# Altium schematic symbol library IFAT6.SchLib: 83 symbols
Pins are listed as number, name and electrical type; pins without a type are passive.

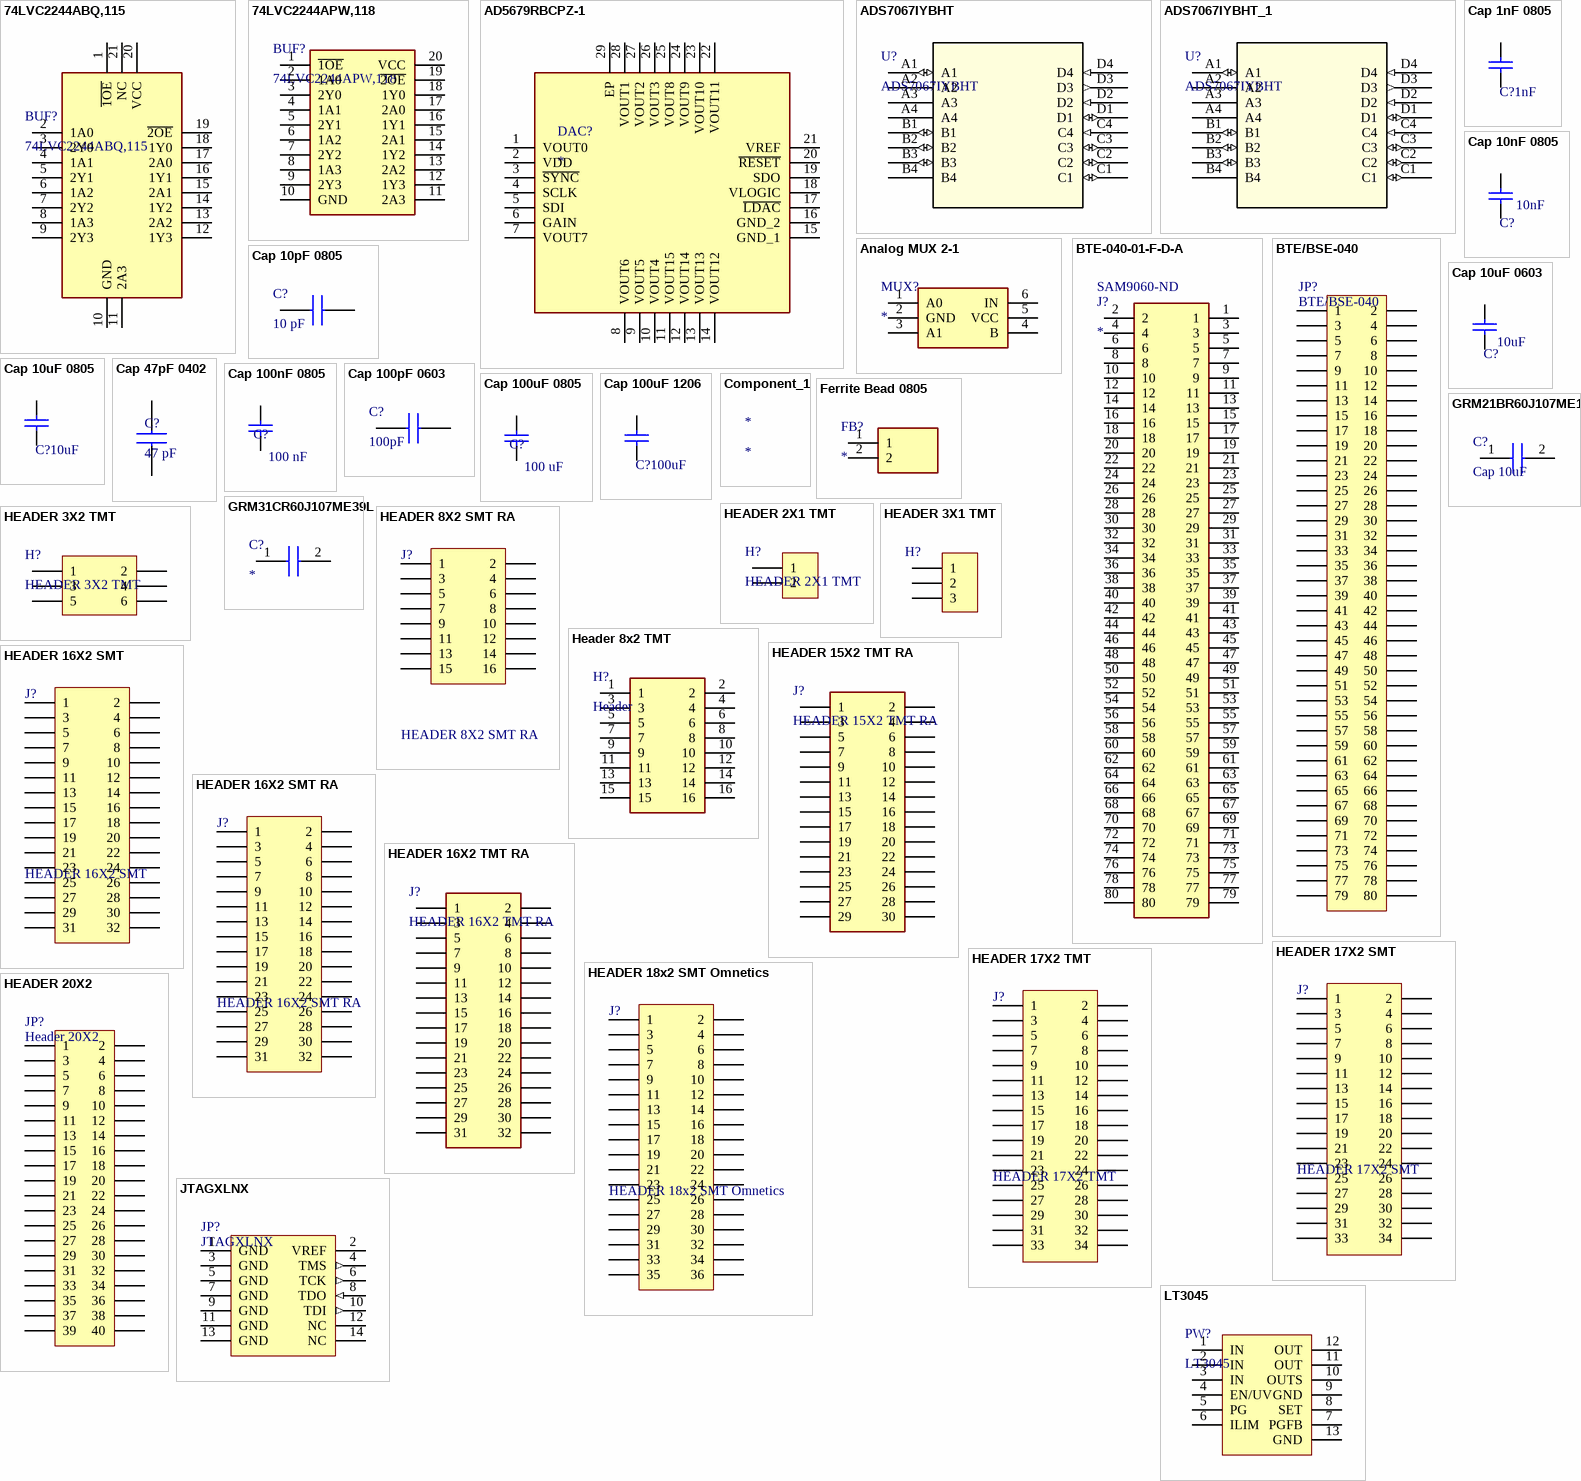
[diagram p0: symbols 74LVC2244ABQ,115 to LT3045]

## 74LVC2244ABQ,115
designator BUF?
Bus Driver, LVC/LCX/Z Series, 2-Func, 4-Bit, True Output, CMOS, PQCC20; Supplier 1: Digi-Key; Supplier Part Number 1: 1727-6995-1-ND
footprint NXP Semiconductors 74LVC2244ABQ,115 (IC BUFF NON-INVERT 3.6V 20DHVQFN)
pins: 1 ~{1OE}, 2 1A0, 3 2Y0, 4 1A1, 5 2Y1, 6 1A2, 7 2Y2, 8 1A3, 9 2Y3, 10 GND, 11 2A3, 12 1Y3, 13 2A2, 14 1Y2, 15 2A1, 16 1Y1, 17 2A0, 18 1Y0, 19 ~{2OE}, 20 VCC, 21 NC

## 74LVC2244APW,118
designator BUF?
Bus Driver, LVC/LCX/Z Series, 2-Func, 4-Bit, True Output, CMOS, PDSO20; Supplier 1: Digi-Key; Supplier Part Number 1: 1727-4030-1-ND; ComponentLink1URL: https://datasheet.ciiva.com:443/pdfs/VipMasterIC/IC/PHGL/PHGLS23636/PHGLS23636-1.pdf?src-supplier=IHS+Markit; ComponentLink1Description: https://datasheet.ciiva.com:443/pdfs/VipMasterIC/IC/PHGL/PHGLS23636/PHGLS23636-1.pdf?src-supplier=IHS+Markit
footprint Nexperia 74LVC2244APW,118 (IC BUFF NON-INVERT 3.6V 20DHVQFN)
pins: 1 ~{1OE}, 2 1A0, 3 2Y0, 4 1A1, 5 2Y1, 6 1A2, 7 2Y2, 8 1A3, 9 2Y3, 10 GND, 11 2A3, 12 1Y3, 13 2A2, 14 1Y2, 15 2A1, 16 1Y1, 17 2A0, 18 1Y0, 19 ~{2OE}, 20 VCC

## AD5679RBCPZ-1
designator DAC?
Integrated Circuit; Manufacturer_Name: Analog Devices; Manufacturer_Part_Number: AD5679RBCPZ-1; Datasheet Link: https://componentsearchengine.com/Datasheets/1/AD5679RBCPZ-1.pdf; Height: 1mm; Mouser Part Number: 584-AD5679RBCPZ-1; Mouser Price/Stock: https://www.mouser.co.uk/ProductDetail/Analog-Devices/AD5679RBCPZ-1?qs=u16ybLDytRZN3sdxACBybw%3D%3D; Supplier 1: Mouser; Supplier Part Number 1: 584-AD5679RBCPZ-1
footprint QFN40P400X400X100-29N-D
pins: 1 VOUT0, 2 VDD, 3 ~{SYNC}, 4 SCLK, 5 SDI, 6 GAIN, 7 VOUT7, 8 VOUT6, 9 VOUT5, 10 VOUT4, 11 VOUT15, 12 VOUT14, 13 VOUT13, 14 VOUT12, 15 GND_1, 16 GND_2, 17 ~{LDAC}, 18 VLOGIC, 19 SDO, 20 ~{RESET}, 21 VREF, 22 VOUT11, 23 VOUT10, 24 VOUT9, 25 VOUT8, 26 VOUT3, 27 VOUT2, 28 VOUT1, 29 EP

## ADS7067IYBHT
designator U?
No Description Available; Mfr_Name: Texas Instruments; Copyright: Copyright (C) 2022 Ultra Librarian. All rights reserved.; Manufacturer_Part_Number: ADS7067IYBHT; RefDes: RefDes; Type: DEV
footprint BGA16_YBH_TEX
pins: A1 (io), A2 (power), A3 (power), A4 (power), B1 (io), B2 (io), B3 (io), B4, C1 (io), C2 (io), C3 (io), C4 (in), D1 (io), D2 (in), D3 (out), D4 (in)

## ADS7067IYBHT_1
designator U?, comment ADS7067IYBHT
No Description Available; Mfr_Name: Texas Instruments; Copyright: Copyright (C) 2022 Ultra Librarian. All rights reserved.; Manufacturer_Part_Number: ADS7067IYBHT; RefDes: RefDes; Type: DEV
footprint BGA16_YBH_TEX
pins: A1 (io), A2 (power), A3 (power), A4 (power), B1 (io), B2 (io), B3 (io), B4, C1 (io), C2 (io), C3 (io), C4 (in), D1 (io), D2 (in), D3 (out), D4 (in)

## Analog MUX 2-1
designator MUX?
Integrated Circuit; Manufacturer_Name: Analog Devices; Manufacturer_Part_Number: ADG3248BKSZ-REEL7; Datasheet Link: http://www.analog.com/media/en/technical-documentation/data-sheets/ADG3248.pdf; Height: 1.1mm; Mouser Part Number: 584-ADG3248BKSZ-R7; Mouser Price/Stock: https://www.mouser.co.uk/ProductDetail/Analog-Devices/ADG3248BKSZ-REEL7?qs=BpaRKvA4VqEqID9iSIANOw%3D%3D; Arrow Part Number: ADG3248BKSZ-REEL7; Arrow Price/Stock: https://www.arrow.com/en/products/adg3248bksz-reel7/analog-devices?region=nac; Supplier 1: Digi-Key; Supplier Part Number 1: ADG3248BKSZ-REEL7CT-ND
footprint SOT65P210X110-6N
pins: 1 A0, 2 GND, 3 A1, 4 B, 5 VCC, 6 IN

## BTE-040-01-F-D-A
designator J?  Supplier Part Number 1: SAM9060-ND
Connector; Manufacturer_Name: SAMTEC; Manufacturer_Part_Number: BTE-040-01-F-D-A; Datasheet Link: http://suddendocs.samtec.com/prints/bte-xxx-xx-x-d-xx-mkt.pdf; Height: 4.27mm; Mouser Part Number: 200-BTE04001FDA; Mouser Price/Stock: https://www.mouser.co.uk/ProductDetail/Samtec/BTE-040-01-F-D-A?qs=0lQeLiL1qyZWYcQfbiTcmQ%3D%3D; Arrow Part Number: BTE-040-01-F-D-A; Arrow Price/Stock: https://www.arrow.com/en/products/bte-040-01-f-d-a/samtec; Supplier 1: Digi-Key
footprint BTE-040-YY-X-D-A
pins: 1, 2, 3, 4, 5, 6, 7, 8, 9, 10, 11, 12, 13, 14, 15, 16, 17, 18, 19, 20, 21, 22, 23, 24, 25, 26, 27, 28, 29, 30, 31, 32, 33, 34, 35, 36, 37, 38, 39, 40, 41, 42, 43, 44, 45, 46, 47, 48, 49, 50, 51, 52, 53, 54, 55, 56, 57, 58, 59, 60, 61, 62, 63, 64, 65, 66, 67, 68, 69, 70, 71, 72, 73, 74, 75, 76, 77, 78, 79, 80

## BTE/BSE-040
designator JP?
Board Stacking Connector, 80 Contact(s), 2 Row(s), Male, Straight, 0.031 inch Pitch, Surface Mount Terminal, Receptacle; Date: November 14, 2003; Supplier 1: Digi-Key; Supplier Part Number 1: SAM8745-ND
footprint Samtec BTE-040-01-L-D-A
pins: 1, 2, 3, 4, 5, 6, 7, 8, 9, 10, 11, 12, 13, 14, 15, 16, 17, 18, 19, 20, 21, 22, 23, 24, 25, 26, 27, 28, 29, 30, 31, 32, 33, 34, 35, 36, 37, 38, 39, 40, 41, 42, 43, 44, 45, 46, 47, 48, 49, 50, 51, 52, 53, 54, 55, 56, 57, 58, 59, 60, 61, 62, 63, 64, 65, 66, 67, 68, 69, 70, 71, 72, 73, 74, 75, 76, 77, 78, 79, 80

## Cap 1nF 0805
designator C?  value 1nF  (hidden comment: Cap 1nF 0805)
Ceramic Capacitor, Multilayer, Ceramic, 50V, 10% +Tol, 10% -Tol, X7R, 15% TC, 0.001uF, Surface Mount, 0805; Supplier 1: Digi-Key; Supplier Part Number 1: 1276-2424-1-ND
footprint Samsung CL21B Series (CAP 0805)
pins: 1, 2

## Cap 10nF 0805
designator C?  value 10nF  (hidden comment: Cap 10nF 0805)
CAP CER 10000PF 25V X7R 0805 / ±10% 25V Ceramic Capacitor X7R 0805 (2012 Metric); Supplier 1: Digi-Key; Supplier Part Number 1: 1276-2434-1-ND
footprint Samsung CL21B Series (CAP 0805)
pins: 1, 2

## Cap 10pF 0805
designator C?, comment 10 pF
Capacitor; Manufacturer_Name: Kemet; Manufacturer_Part_Number: C0805C100J5GACTU; Datasheet Link: http://www.mouser.com/ds/2/212/KEM_C1003_C0G_SMD-356956.pdf; Height: 0.88mm; Mouser Part Number: 80-C0805C100J5G; Mouser Price/Stock: https://www.mouser.co.uk/ProductDetail/KEMET/C0805C100J5GACTU?qs=nxj9Bpd7lumc4YIny1qjLA%3D%3D; Arrow Part Number: C0805C100J5GACTU; Arrow Price/Stock: https://www.arrow.com/en/products/c0805c100j5gactu/kemet-corporation?region=nac; Supplier 1: Digi-Key; Supplier Part Number 1: 399-C0805C100J5GAC7800CT-ND
footprint CAPC2012X88N
pins: 1, 2

## Cap 10uF 0603
designator C?  value 10uF  (hidden comment: Cap 10uF 0603)
Ceramic Capacitor, Multilayer, Ceramic, 6.3V, 20% +Tol, 20% -Tol, X5R, 15% TC, 10uF, Surface Mount, 0603; Supplier 1: Digi-Key; Supplier 2: Digi-Key; Supplier Part Number 1: 490-3896-1-ND; Supplier Part Number 2: 1276-1038-1-ND
footprint Murata GRM188R60J106ME47D (CAP CER 10UF 6.3V X5R 0603)
pins: 1, 2

## Cap 10uF 0805
designator C?  value 10uF  (hidden comment: Cap 10uF 0805)
CAP CER 10UF 16V X5R 0805 / ±10% 16V Ceramic Capacitor X5R 0805 (2012 Metric); Supplier 1: Digi-Key; Supplier 2: Digi-Key; Supplier Part Number 1: 399-4925-1-ND; Supplier Part Number 2: 399-11939-1-ND
footprint KEMET C0805C106K4PACTU (CAP CER 10UF 16V X5R 0805)
pins: 1, 2

## Cap 47pF 0402
designator C?, comment 47 pF
Capacitor; Manufacturer_Name: AVX; Manufacturer_Part_Number: 04025A470JAT2A; Datasheet Link: http://www.mouser.com/catalog/supplier/library/pdf/AVXSurfaceMountCeramic.pdf; Height: 0.56mm; Mouser Part Number: 581-04025A470J; Mouser Price/Stock: https://www.mouser.com/Search/Refine.aspx?Keyword=581-04025A470J; Arrow Part Number: 04025A470JAT2A; Arrow Price/Stock: https://www.arrow.com/en/products/04025a470jat2a/avx; Supplier 1: Digi-Key; Supplier Part Number 1: 478-1078-1-ND
footprint CAPC1005X56N
pins: 1, 2

## Cap 100nF 0805
designator C?  value 100 nF  (hidden comment: Cap 100nF 0805)
CAP CER 0.1UF 10V X7R 0805 / ±10% 10V Ceramic Capacitor X7R 0805 (2012 Metric); Supplier 1: Digi-Key; Supplier Part Number 1: 478-5311-1-ND
footprint KEMET C0805C104J8RACTU (CAP CER 0.1UF 10V X7R 0805)
pins: 1, 2

## Cap 100pF 0603
designator C?, comment 100pF
Capacitor; Manufacturer_Name: AVX; Manufacturer_Part_Number: 06035A101FAT2A; Datasheet Link: https://componentsearchengine.com/Datasheets/1/06031A100FAT2A.pdf; Height: 0.9mm; Mouser Part Number: 581-06035A101F; Mouser Price/Stock: https://www.mouser.co.uk/ProductDetail/AVX/06035A101FAT2A?qs=AGOxcRBkg6ajfVvm2Jvp8A%3D%3D; Arrow Part Number: 06035A101FAT2A; Arrow Price/Stock: https://www.arrow.com/en/products/06035a101fat2a/avx?region=nac; Supplier 1: Digi-Key; Supplier Part Number 1: 478-6202-1-ND
footprint CAPC1608X90N
pins: 1, 2

## Cap 100uF 0805
designator C?  value 100 uF  (hidden comment: Cap 100uF 0805)
100 µF ±20% 6.3V Ceramic Capacitor X5R 0805 (2012 Metric); Supplier 1: Newark; Supplier Part Number 1: 58Y4653
footprint KEMET C0805C104J8RACTU (CAP CER 0.1UF 10V X7R 0805)
pins: 1, 2

## Cap 100uF 1206
designator C?  value 100uF  (hidden comment: Cap 100uF 1206)
CAP CER 100UF 6.3V X5R 1206 / ±20% 6.3V Ceramic Capacitor X5R 1206 (3216 Metric); Published: 8-Jun-2000; LatestRevisionDate: 29-May-2009; LatestRevisionNote: IPC-7351 Footprint Added.; PackageReference: C1206; Publisher: Altium Limited; Supplier 1: RSComponents; Supplier Part Number 1: 7661078
footprint Taiyo Yuden JMK316ABJ107ML-T (CAP CER 100UF 6.3V X5R 1206)
pins: 1, 2

## Component_1
designator *

## Ferrite Bead 0805
designator FB?
Ferrite Bead; Manufacturer_Name: Fair-Rite; Manufacturer_Part_Number: 2508056007Y6; Datasheet Link: https://www.arrow.com/en/products/2508056007y6/fair-rite-products?region=nac; Height: 1.1mm; Mouser Part Number: 623-2508056007Y6; Mouser Price/Stock: https://www.mouser.co.uk/ProductDetail/Fair-Rite/2508056007Y6?qs=paL1wOLBYNeaH0qQLC7FvA%3D%3D; Arrow Part Number: 2508056007Y6; Arrow Price/Stock: https://www.arrow.com/en/products/2508056007y6/fair-rite-products?region=nac; Supplier 1: Digi-Key; Supplier Part Number 1: 1934-1471-1-ND
footprint BEADC2012X110N
pins: 1, 2

## GRM21BR60J107ME15
designator C?, comment Cap 10uF
Capacitor; Manufacturer_Name: Murata Electronics; Manufacturer_Part_Number: GRM21BR60J107ME15; Height: 1.45mm
footprint CAPC2012X145N
pins: 1, 2

## GRM31CR60J107ME39L
designator C?
Capacitor; Manufacturer_Name: Murata Electronics; Manufacturer_Part_Number: GRM31CR60J107ME39L; Datasheet Link: https://datasheet.datasheetarchive.com/originals/distributors/Datasheets_SAMA/ec4f1577dddcc7a13ddad897a28002d3.pdf; Height: 1.8mm; Mouser Part Number: 81-GRM31CR60J107ME9L; Mouser Price/Stock: https://www.mouser.co.uk/ProductDetail/Murata-Electronics/GRM31CR60J107ME39L?qs=l8FzV8xstEk1crgPpDV82A%3D%3D; Arrow Part Number: GRM31CR60J107ME39L; Arrow Price/Stock: https://www.arrow.com/en/products/grm31cr60j107me39l/murata-manufacturing
footprint CAPC3216X180N
pins: 1, 2

## HEADER 2X1 TMT
designator H?
CONN HEADER VERT 2POS 2.54MM / Connector Header Through Hole 2 position 0.100" (2.54mm); Supplier 1: Digi-Key; Supplier Part Number 1: SAM1029-02-ND
footprint Samtec TSW-102-07-G-S (CONN HEADER VERT 2POS 2.54MM)
pins: 1, 2

## HEADER 3X1 TMT
designator H?  (value not drawn)
CONN HEADER VERT 3POS 2.54MM / Connector Header Through Hole 3 position 0.100" (2.54mm); Supplier 1: Digi-Key; Supplier Part Number 1: SAM1031-03-ND
footprint Samtec TSW-103-07-L-S (CONN HEADER VERT 3POS 2.54MM)
pins: 1, 2, 3

## HEADER 3X2 TMT
designator H?
CONN HEADER VERT 6POS 2.54MM / Connector Header Through Hole 6 position 0.100" (2.54mm); Supplier 1: Digi-Key; Supplier Part Number 1: SAM1028-03-ND
footprint Samtec TSW-103-07-G-D (CONN HEADER VERT 6POS 2.54MM)
pins: 1, 2, 3, 4, 5, 6

## HEADER 8X2 SMT RA
designator J?
Board Connector, 16 Contact(s), 2 Row(s), Male, Right Angle, 0.1 inch Pitch, Surface Mount Terminal, Locking, Black Insulator; Supplier 1: Digi-Key; Supplier Part Number 1: SAM12252-ND
footprint Samtec TSM-108-01-L-DH (CONN HEADER SMD R/A 16POS 2.54MM)
pins: 1, 2, 3, 4, 5, 6, 7, 8, 9, 10, 11, 12, 13, 14, 15, 16

## Header 8x2 TMT
designator H?, comment Header
Connector; Manufacturer_Name: SAMTEC; Manufacturer_Part_Number: HTSW-108-07-G-D; Datasheet Link: http://suddendocs.samtec.com/catalog_english/htsw_th.pdf; Height: 8.38mm; Mouser Part Number: 200-HTSW10807GD; Mouser Price/Stock: https://www.mouser.co.uk/ProductDetail/Samtec/HTSW-108-07-G-D?qs=0lQeLiL1qyZ%252B%252BSi5pUJ2JA%3D%3D; Arrow Part Number: HTSW-108-07-G-D; Arrow Price/Stock: https://www.arrow.com/en/products/htsw-108-07-g-d/samtec?region=nac; Supplier 1: Digi-Key; Supplier Part Number 1: SAM10540-ND
footprint HDRV16W64P254_2X8_2032X502X838P
pins: 1, 2, 3, 4, 5, 6, 7, 8, 9, 10, 11, 12, 13, 14, 15, 16

## HEADER 15X2 TMT RA
designator J?
Board Connector, 30 Contact(s), 2 Row(s), Male, Right Angle, 0.1 inch Pitch, Solder Terminal, Black Insulator; Supplier 1: Mouser; Supplier 2: Digi-Key; Supplier 3: Newark; ComponentLink1URL: https://datasheet.ciiva.com:443/pdfs/VipMasterIC/IC/SAMI/SAMI-S-A0002522030/SAMI-S-A0002522030-1.pdf?src-supplier=IHS+Markit; ComponentLink1Description: https://datasheet.ciiva.com:443/pdfs/VipMasterIC/IC/SAMI/SAMI-S-A0002522030/SAMI-S-A0002522030-1.pdf?src-supplier=IHS+Markit; ComponentLink2URL: https://datasheet.ciiva.com/9863/htsw-th-9863274.pdf?src-supplier=Avnet; ComponentLink2Description: https://datasheet.ciiva.com/9863/htsw-th-9863274.pdf?src-supplier=Avnet; ComponentLink3URL: https://datasheet.ciiva.com/16698/htsw-th-16698846.pdf?src-supplier=Avnet+Europe; ComponentLink3Description: https://datasheet.ciiva.com/16698/htsw-th-16698846.pdf?src-supplier=Avnet+Europe; Supplier Part Number 1: 200-TSW11508LDRA; Supplier Part Number 2: SAM1041-15-ND; Supplier Part Number 3: 12P2150
footprint Samtec TSW-115-08-L-D-RA (CONN HEADER R/A 30POS 2.54MM)
pins: 1, 2, 3, 4, 5, 6, 7, 8, 9, 10, 11, 12, 13, 14, 15, 16, 17, 18, 19, 20, 21, 22, 23, 24, 25, 26, 27, 28, 29, 30

## HEADER 16X2 SMT
designator J?
CONN HEADER SMD 32POS 2.54MM / Connector Header Surface Mount 32 position 0.100" (2.54mm); Supplier 1: Digi-Key; Supplier Part Number 1: SAM12271-ND
footprint Samtec TSM-116-01-L-DV (CONN HEADER SMD 32POS 2.54MM)
pins: 1, 2, 3, 4, 5, 6, 7, 8, 9, 10, 11, 12, 13, 14, 15, 16, 17, 18, 19, 20, 21, 22, 23, 24, 25, 26, 27, 28, 29, 30, 31, 32

## HEADER 16X2 SMT RA
designator J?
CONN HEADER SMD R/A 32POS 2.54MM / Connector Header Surface Mount, Right Angle 32 position 0.100" (2.54mm); Supplier 1: RSComponents; Supplier 2: Digi-Key; Supplier Part Number 1: 7656681; Supplier Part Number 2: TSM-116-01-L-DH-ND
footprint SAMTEC TSM-116-01-L-DH (CONN HEADER SMD R/A 32POS 2.54MM)
pins: 1, 2, 3, 4, 5, 6, 7, 8, 9, 10, 11, 12, 13, 14, 15, 16, 17, 18, 19, 20, 21, 22, 23, 24, 25, 26, 27, 28, 29, 30, 31, 32

## HEADER 16X2 TMT RA
designator J?
CONN HEADER R/A 32POS 2.54MM / Connector Header Through Hole, Right Angle 32 position 0.100" (2.54mm); Supplier 1: Mouser; Supplier 2: Digi-Key; Supplier Part Number 1: 200-TSW11608LDRA; Supplier Part Number 2: SAM1041-16-ND
footprint Samtec TSW-116-08-L-D-RA (CONN HEADER R/A 32POS 2.54MM)
pins: 1, 2, 3, 4, 5, 6, 7, 8, 9, 10, 11, 12, 13, 14, 15, 16, 17, 18, 19, 20, 21, 22, 23, 24, 25, 26, 27, 28, 29, 30, 31, 32

## HEADER 17X2 SMT
designator J?
CONN HEADER SMD 34POS 2.54MM / Connector Header Surface Mount 34 position 0.100" (2.54mm); Supplier 1: Mouser; Supplier 2: Digi-Key; Supplier Part Number 1: 200-TSM11701LDV; Supplier Part Number 2: SAM10307-ND
footprint Samtec TSM-117-01-L-DV (CONN HEADER SMD 34POS 2.54MM)
pins: 1, 2, 3, 4, 5, 6, 7, 8, 9, 10, 11, 12, 13, 14, 15, 16, 17, 18, 19, 20, 21, 22, 23, 24, 25, 26, 27, 28, 29, 30, 31, 32, 33, 34

## HEADER 17X2 TMT
designator J?
CONN HEADER VERT 34POS 2.54MM / Connector Header Through Hole 34 position 0.100" (2.54mm); Supplier 1: Mouser; Supplier 2: Digi-Key; Supplier Part Number 2: SAM1028-17-ND; Supplier Part Number 1: 200-TSW11707GD
footprint Samtec TSW-117-07-G-D (CONN HEADER VERT 34POS 2.54MM)
pins: 1, 2, 3, 4, 5, 6, 7, 8, 9, 10, 11, 12, 13, 14, 15, 16, 17, 18, 19, 20, 21, 22, 23, 24, 25, 26, 27, 28, 29, 30, 31, 32, 33, 34

## HEADER 18x2 SMT Omnetics
designator J?
Omnetics, A79024-001, NPD-36-AA-GS / 36 Position Dual Row Male Nano-Miniature (.025"/.64mm) Connector
footprint Omnetics_A79024-001 (36 Position Dual Row Male Nano-Miniature (.025"/.64mm) Connector)
pins: 1, 2, 3, 4, 5, 6, 7, 8, 9, 10, 11, 12, 13, 14, 15, 16, 17, 18, 19, 20, 21, 22, 23, 24, 25, 26, 27, 28, 29, 30, 31, 32, 33, 34, 35, 36

## HEADER 20X2
designator JP?, comment Header 20X2
2MM LOW PROFILE STRIPS / Connector Header position; Manufacturer: Generic Components; Revision: July-2002: Re-released for DXP Platform.; Publisher: Altium Limited; Class I: Connector; Supplier 1: Digi-Key; Supplier Part Number 1: TMMH-120-01-F-D-ND
footprint Samtec TMMH-120-01-F-D (2MM LOW PROFILE STRIPS)
pins: 1, 2, 3, 4, 5, 6, 7, 8, 9, 10, 11, 12, 13, 14, 15, 16, 17, 18, 19, 20, 21, 22, 23, 24, 25, 26, 27, 28, 29, 30, 31, 32, 33, 34, 35, 36, 37, 38, 39, 40

## JTAGXLNX
designator JP?
CONN HEADER SMD 14POS 2MM / Connector Header Surface Mount 14 position 0.079" (2.00mm) / for Xilinx JTAG Header, 7-Pin, Dual row; Manufacturer: Generic Components; PartNumber: 000541; Revision: July-2002: Re-released for DXP Platform.; Publisher: Altium Limited; Class I: Connector; Supplier 1: Digi-Key; Supplier Part Number 1: WM18641-ND
footprint Molex 0878321420 (CONN HEADER SMD 14POS 2MM)
pins: 1 GND (power), 2 VREF (power), 3 GND (power), 4 TMS (out), 5 GND (power), 6 TCK (out), 7 GND (power), 8 TDO (in), 9 GND (power), 10 TDI (out), 11 GND (power), 12 NC, 13 GND (power), 14 NC

## LT3045
designator PW?
IC REG LINEAR 0V 500MA 12MSOP / Linear Voltage Regulator IC Output 500mA 12-MSOP-EP; Supplier 1: Digi-Key; Supplier 2: Digi-Key; Supplier Part Number 1: LT3045IMSE#PBF-ND; Supplier Part Number 2: 505-LT3045IMSE#PBF-ND
footprint ADI LT3045IMSE#PBF (IC REG LINEAR 0V 500MA 12MSOP)
pins: 1 IN, 2 IN, 3 IN, 4 EN/UV, 5 PG, 6 ILIM, 7 PGFB, 8 SET, 9 GND, 10 OUTS, 11 OUT, 12 OUT, 13 GND

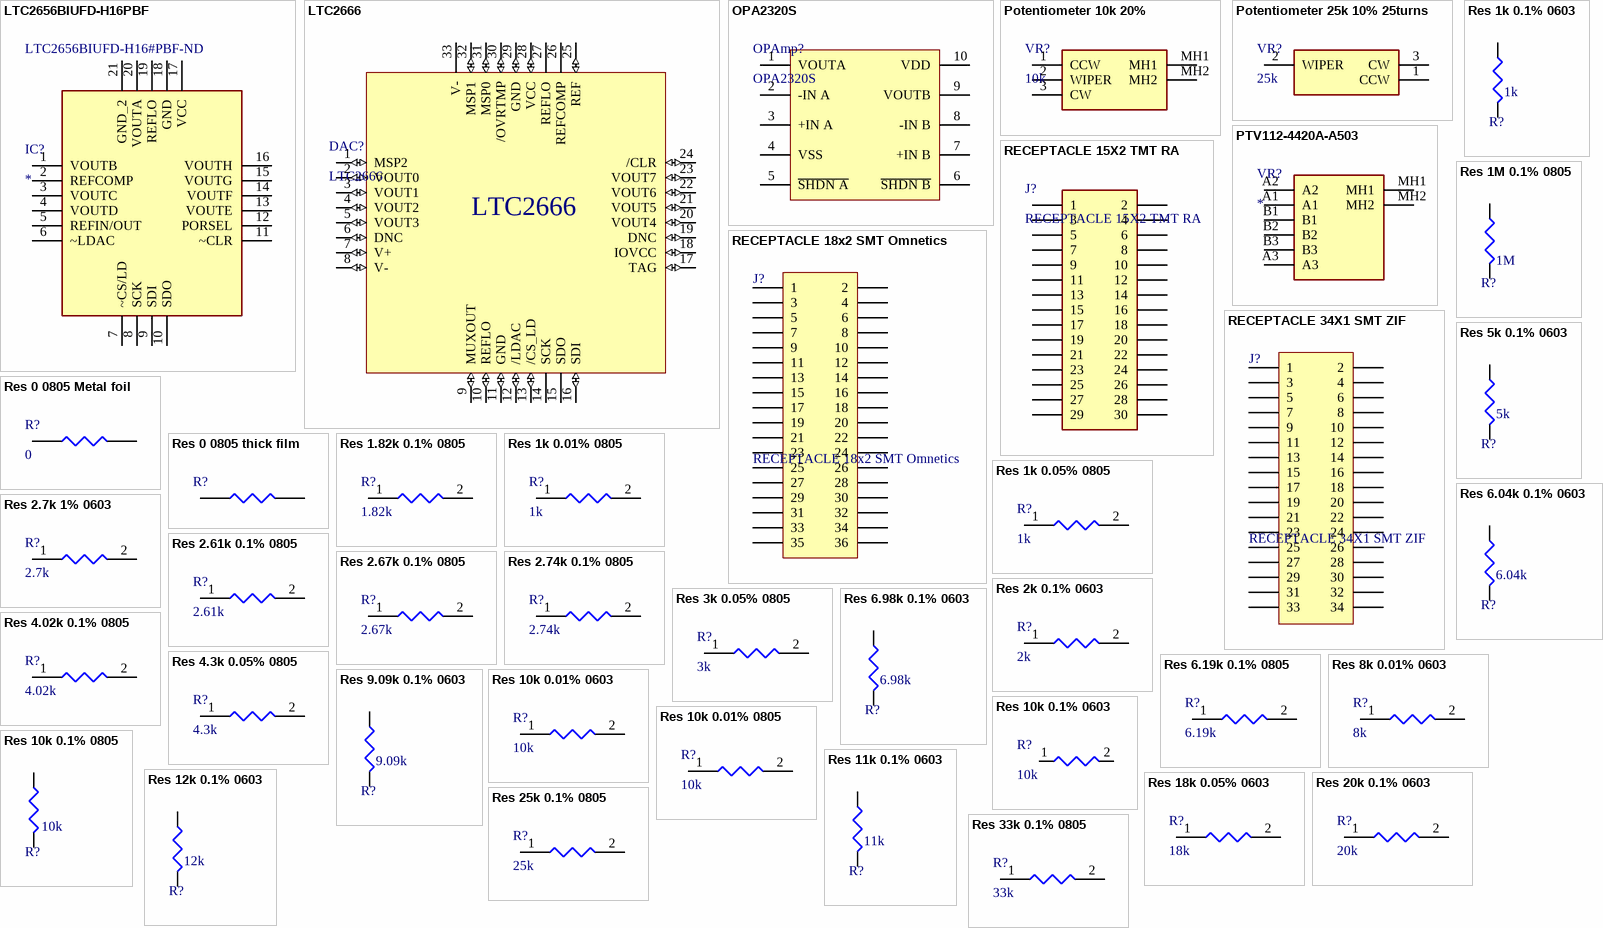
[diagram p1: symbols LTC2656BIUFD-H16PBF to Res 33k 0.1% 0805]

## LTC2656BIUFD-H16PBF
designator IC?  Supplier Part Number 1: LTC2656BIUFD-H16#PBF-ND
Integrated Circuit; Manufacturer_Name: Linear Technology; Manufacturer_Part_Number: LTC2656BIUFD-H16PBF; Supplier 1: Digi-Key
footprint QFN50P400X500X80-21N
pins: 1 VOUTB, 2 REFCOMP, 3 VOUTC, 4 VOUTD, 5 REFIN/OUT, 6 ~LDAC, 7 ~CS/LD, 8 SCK, 9 SDI, 10 SDO, 11 ~CLR, 12 PORSEL, 13 VOUTE, 14 VOUTF, 15 VOUTG, 16 VOUTH, 17 VCC, 18 GND, 19 REFLO, 20 VOUTA, 21 GND_2

## LTC2666
designator DAC?
IC DAC 16BIT V-OUT 32QFN / 16 Bit Digital to Analog Converter 8 32-QFN (5x5); Supplier 1: Digi-Key; Supplier Part Number 1: LTC2666CUH-16#PBF-ND
footprint ADI LTC2666CUH-16#PBF (IC DAC 16BIT V-OUT 32QFN)
pins: 1 MSP2 (io), 2 VOUT0 (io), 3 VOUT1 (io), 4 VOUT2 (io), 5 VOUT3 (io), 6 DNC (io), 7 V+ (io), 8 V- (io), 9 MUXOUT (io), 10 REFLO (io), 11 GND (io), 12 /LDAC (io), 13 /CS_LD (io), 14 SCK (power), 15 SDO (power), 16 SDI (io), 17 TAG (io), 18 IOVCC (io), 19 DNC (io), 20 VOUT4 (io), 21 VOUT5 (io), 22 VOUT6 (io), 23 VOUT7 (io), 24 /CLR (io), 25 REF (io), 26 REFCOMP (power), 27 REFLO (power), 28 VCC (io), 29 GND (io), 30 /OVRTMP (io), 31 MSP0 (io), 32 MSP1 (io), 33 V-

## OPA2320S
designator OPAmp?
IC OPAMP RR CMOS 20MHZ 10VSSOP / CMOS Amplifier Circuit Rail-to-Rail 10-VSSOP; Supplier 1: Digi-Key; Supplier 2: Digi-Key; Supplier 3: Mouser; Supplier Part Number 1: 296-40455-1-ND; Supplier Part Number 2: 296-48160-1-ND; Supplier Part Number 3: 595-OPA2320SAIDGSR
footprint TI OPA2320SAIDGSR (IC OPAMP GP 2 CIRCUIT 8SON)
pins: 1 VOUTA, 2 -IN A, 3 +IN A, 4 VSS, 5 ~{SHDN A}, 6 ~{SHDN B}, 7 +IN B, 8 -IN B, 9 VOUTB, 10 VDD

## Potentiometer 10k 20%
designator VR?, comment 10k
Variable Resistor; Manufacturer_Name: Bourns; Manufacturer_Part_Number: PTV09A-4025F-B103; Datasheet Link: https://www.bourns.com/docs/Product-Datasheets/PTV09.pdf; Height: 15.5mm; Mouser Part Number: 652-PTV09A-4025FB103; Mouser Price/Stock: https://www.mouser.co.uk/ProductDetail/Bourns/PTV09A-4025F-B103?qs=okKRLHKnSlbwMbAO07mw0g%3D%3D; Arrow Part Number: PTV09A-4025F-B103; Arrow Price/Stock: https://www.arrow.com/en/products/ptv09a-4025f-b103/bourns?region=nac; Supplier 1: Digi-Key; Supplier Part Number 1: PTV09A-4025F-B103-ND
footprint PTV09A4015FB103
pins: 1 CCW, 2 WIPER, 3 CW, MH1, MH2

## Potentiometer 25k 10% 25turns
designator VR?, comment 25k
Variable Resistor; Manufacturer_Name: Bourns; Manufacturer_Part_Number: 3296Y-1-253LF; Datasheet Link: https://www.bourns.com/pdfs/3296.pdf; Height: 10.03mm; Mouser Part Number: 652-3296Y-1-253LF; Mouser Price/Stock: https://www.mouser.co.uk/ProductDetail/Bourns/3296Y-1-253LF?qs=qf0v6TrL3uoHcY4fQ%2F0nqg%3D%3D; Arrow Part Number: 3296Y-1-253LF; Arrow Price/Stock: https://www.arrow.com/en/products/3296y-1-253lf/bourns?region=europe; Supplier 1: Digi-Key; Supplier Part Number 1: 3296Y-253LF-ND
footprint 3296Y1502LF
pins: 1 CCW, 2 WIPER, 3 CW

## PTV112-4420A-A503
designator VR?
Variable Resistor; Manufacturer_Name: Bourns; Manufacturer_Part_Number: PTV112-4420A-A503; Datasheet Link: https://componentsearchengine.com/Datasheets/1/PTV112-4420A-A503.pdf; Height: 20mm; Mouser Part Number: 652-PTV112-4420AA503; Mouser Price/Stock: https://www.mouser.co.uk/ProductDetail/Bourns/PTV112-4420A-A503?qs=okKRLHKnSlbAC6SYTIo2ig%3D%3D; Arrow Part Number: PTV112-4420A-A503; Arrow Price/Stock: https://www.arrow.com/en/products/ptv112-4420a-a503/bourns
footprint PTV1124420AA503
pins: A1, A2, A3, B1, B2, B3, MH1, MH2

## RECEPTACLE 15X2 TMT RA
designator J?
CONN RCPT 30POS 0.1 GOLD PCB R/A / 30 Position Receptacle Connector Through Hole, Right Angle; Supplier 1: Digi-Key; Supplier Part Number 1: SAM1215-15-ND
footprint Samtec SSW-115-02-G-D-RA (CONN RCPT 30POS 0.1 GOLD PCB R/A)
pins: 1, 2, 3, 4, 5, 6, 7, 8, 9, 10, 11, 12, 13, 14, 15, 16, 17, 18, 19, 20, 21, 22, 23, 24, 25, 26, 27, 28, 29, 30

## RECEPTACLE 18x2 SMT Omnetics
designator J?
Omnetics, A79025-001, NSD-36-AA-GS / 36 Position Dual Row Female Nano-Miniature (.025"/.64mm) Connector
footprint Omnetics_A79025-001 (36 Position Dual Row Female Nano-Miniature (.025"/.64mm) Connector)
pins: 1, 2, 3, 4, 5, 6, 7, 8, 9, 10, 11, 12, 13, 14, 15, 16, 17, 18, 19, 20, 21, 22, 23, 24, 25, 26, 27, 28, 29, 30, 31, 32, 33, 34, 35, 36

## RECEPTACLE 34X1 SMT ZIF
designator J?
CONN FPC/FFC 34POS .5MM / 34 Position FFC, FPC Connector Contacts, Top and Bottom 0.020" (0.50mm) Surface Mount, Right Angle; Supplier 1: Mouser; Supplier 2: Digi-Key; Supplier Part Number 1: 798-FH34SRJ34S05SH50; Supplier Part Number 2: FH34SRJ-34S-0.5SH(50)-ND
footprint Hirose FH34SRJ-34S-0.5SH(50) (CONN FPC/FFC 34POS .5MM)
pins: 1, 2, 3, 4, 5, 6, 7, 8, 9, 10, 11, 12, 13, 14, 15, 16, 17, 18, 19, 20, 21, 22, 23, 24, 25, 26, 27, 28, 29, 30, 31, 32, 33, 34

## Res 0 0805 Metal foil
designator R?, comment 0
Resistor; Manufacturer_Name: Stackpole Electronics Inc.; Manufacturer_Part_Number: HCJ0805ZT0R00; Datasheet Link: https://www.seielect.com/catalog/sei-hcj.pdf; Height: 0.85mm; Arrow Part Number: HCJ0805ZT0R00; Arrow Price/Stock: https://www.arrow.com/en/products/hcj0805zt0r00/stackpole-electronics; Supplier 1: Digi-Key; Supplier Part Number 1: HCJ0805ZT0R00CT-ND
footprint RESC2012X85N
pins: 1, 2

## Res 0 0805 thick film
designator R?, comment 0  (value not drawn)
Resistor; Manufacturer_Name: Stackpole Electronics Inc.; Manufacturer_Part_Number: RMCF0805ZT0R00; Datasheet Link: https://www.seielect.com/catalog/sei-rmcf_rmcp.pdf; Height: 0.65mm; Arrow Part Number: RMCF0805ZT0R00; Arrow Price/Stock: https://www.arrow.com/en/products/rmcf0805zt0r00/stackpole-electronics?region=nac; Supplier 1: Digi-Key; Supplier Part Number 1: RMCF0805ZT0R00CT-ND
footprint RESC2012X65N
pins: 1, 2

## Res 1.82k 0.1% 0805
designator R?, comment 1.82k
Resistor; Manufacturer_Name: TE Connectivity; Manufacturer_Part_Number: RN73C2A1K82BTDF; Datasheet Link: https://datasheet.datasheetarchive.com/originals/distributors/DKDS42/DSANUWW0051573.pdf; Height: 0.65mm; Mouser Part Number: 279-RN73CA-1.82K; Mouser Price/Stock: https://www.mouser.co.uk/ProductDetail/TE-Connectivity-Holsworthy/RN73C2A1K82BTDF?qs=ZPSEfTFrwZz1ATm7qMKXjA%3D%3D; Supplier 1: Digi-Key; Supplier Part Number 1: A103359CT-ND
footprint RESC2012X65N
pins: 1, 2

## Res 1k 0.1% 0603
designator R?  value 1k  (hidden comment: Res 1k 0.1% 0603)
RES SMD 1K OHM 0.1% 1/10W 0603 / 1 ±0.1% 0.1W, 1/10W Chip Resistor 0603 (1608 Metric) Automotive AEC-Q200 Thin Film; Supplier 1: Digi-Key; Supplier Part Number 1: P1.0KDBCT-ND
simulation model RESISTOR (Resistor)
signal-integrity model Res
footprint Panasonic ERA-3A Series Resistor (RES SMD 0603)
pins: 1, 2

## Res 1k 0.01% 0805
designator R?, comment 1k
Resistor; Manufacturer_Name: Vishay; Manufacturer_Part_Number: Y16291K00000T9R; Datasheet Link: http://www.vishaypg.com/docs/63106/VFCP.pdf; Height: 0.64mm; Mouser Part Number: 71-VFCP08051K0000TST; Mouser Price/Stock: https://www.mouser.co.uk/ProductDetail/Vishay-Precision-Group-Foil-Resistors/Y16291K00000T9R?qs=D9wlVya0Yc3m8%252BzGqo%2FVWQ%3D%3D; Supplier 1: Digi-Key; Supplier Part Number 1: Y1629-1.0KACT-ND
footprint RESC2012X64N
pins: 1, 2

## Res 1k 0.05% 0805
designator R?, comment 1k
Resistor; Manufacturer_Name: Panasonic; Manufacturer_Part_Number: ERA-6ARW102V; Datasheet Link: http://industrial.panasonic.com/cdbs/www-data/pdf/RDM0000/AOA0000C307.pdf; Height: 0.6mm; Mouser Part Number: 667-ERA-6ARW102V; Mouser Price/Stock: https://www.mouser.com/Search/Refine.aspx?Keyword=667-ERA-6ARW102V; Supplier 1: Digi-Key; Supplier Part Number 1: P1.0KBSCT-ND
footprint ERA6A_(0805)
pins: 1, 2

## Res 1M 0.1% 0805
designator R?  value 1M  (hidden comment: Res 1M 0.1% 0805)
RES 1M OHM 0.1% 1/8W 0805 / 1 ±0.1% 0.125W, 1/8W Chip Resistor 0805 (2012 Metric) Automotive AEC-Q200 Thin Film; Supplier 1: Digi-Key; Supplier 2: Digi-Key; Supplier Part Number 1: P1MDACT-ND; Supplier Part Number 2: YAG1821CT-ND
simulation model RESISTOR (Resistor)
signal-integrity model Res
footprint Panasonic ERA-6A Series Resistor (RES SMD 0805)
pins: 1, 2

## Res 2.7k 1% 0603
designator R?, comment 2.7k
Resistor; Manufacturer_Name: Bourns; Manufacturer_Part_Number: CR0603-FX-2701ELF; Datasheet Link: https://www.bourns.com/pdfs/chpreztr.pdf; Height: 0.55mm; Mouser Part Number: 652-CR0603-FX2701ELF; Mouser Price/Stock: https://www.mouser.com/Search/Refine.aspx?Keyword=652-CR0603-FX2701ELF; Supplier 1: Digi-Key; Supplier Part Number 1: CR0603-FX-2701ELFCT-ND
footprint RESC1608X55N
pins: 1, 2

## Res 2.61k 0.1% 0805
designator R?, comment 2.61k
Resistor; Manufacturer_Name: Panasonic; Manufacturer_Part_Number: ERA-6AEB2611V; Datasheet Link: http://industrial.panasonic.com/cdbs/www-data/pdf/RDM0000/AOA0000C307.pdf; Height: 0.6mm; Mouser Part Number: 667-ERA-6AEB2611V; Mouser Price/Stock: https://www.mouser.co.uk/ProductDetail/Panasonic/ERA-6AEB2611V?qs=nuXzIS8loXHQXOR2Oi4aOw%3D%3D; Supplier 1: Digi-Key; Supplier Part Number 1: P2.61KDACT-ND
footprint ERA6A_(0805)
pins: 1, 2

## Res 2.67k 0.1% 0805
designator R?, comment 2.67k
Resistor; Manufacturer_Name: Panasonic; Manufacturer_Part_Number: ERA-6AEB2671V; Datasheet Link: http://industrial.panasonic.com/cdbs/www-data/pdf/RDM0000/AOA0000C307.pdf; Height: 0.6mm; Mouser Part Number: 667-ERA-6AEB2671V; Mouser Price/Stock: http://www.mouser.com/Search/ProductDetail.aspx?qs=nuXzIS8loXEz%252b%252bDhwqxxMQ%3d%3d; Supplier 1: Digi-Key; Supplier Part Number 1: P2.67KDACT-ND
footprint ERA6A_(0805)
pins: 1, 2

## Res 2.74k 0.1% 0805
designator R?, comment 2.74k
Resistor; Manufacturer_Name: Panasonic; Manufacturer_Part_Number: ERA-6AEB2741V; Datasheet Link: http://industrial.panasonic.com/cdbs/www-data/pdf/RDM0000/AOA0000C307.pdf; Height: 0.6mm; Mouser Part Number: 667-ERA-6AEB2741V; Mouser Price/Stock: https://www.mouser.com/Search/Refine.aspx?Keyword=667-ERA-6AEB2741V; Supplier 1: Digi-Key; Supplier 2: Digi-Key; Supplier Part Number 1: P2.74KDACT-ND; Supplier Part Number 2: A110585CT-ND
footprint ERA6A_(0805)
pins: 1, 2

## Res 2k 0.1% 0603
designator R?, comment 2k
Resistor; Manufacturer_Name: Susumu; Manufacturer_Part_Number: RG2012N-202-W-T1; Datasheet Link: http://uk.rs-online.com/web/p/products/0161679; Height: 0.5mm; Mouser Part Number: 754-RG2012N-202-W-T1; Mouser Price/Stock: https://www.mouser.com/Search/Refine.aspx?Keyword=754-RG2012N-202-W-T1; Supplier 1: RSComponents; Supplier 2: Digi-Key; Supplier Part Number 1: 8280550; Supplier Part Number 2: A140444CT-ND
footprint RESC2012X50N
pins: 1, 2

## Res 3k 0.05% 0805
designator R?, comment 3k
Resistor; Manufacturer_Name: Panasonic; Manufacturer_Part_Number: ERA-6ARW302V; Datasheet Link: http://industrial.panasonic.com/cdbs/www-data/pdf/RDM0000/AOA0000C307.pdf; Height: 0.6mm; Mouser Part Number: 667-ERA-6ARW302V; Mouser Price/Stock: https://www.mouser.co.uk/ProductDetail/Panasonic/ERA-6ARW302V?qs=ob%252BdNz2%252BYEjAeQgHrtJPRQ%3D%3D; Supplier 1: Digi-Key; Supplier Part Number 1: P3.0KBSCT-ND
footprint ERA6A_(0805)
pins: 1, 2

## Res 4.02k 0.1% 0805
designator R?, comment 4.02k
Resistor; Manufacturer_Name: TE Connectivity; Manufacturer_Part_Number: RN73C2A4K02BTD; Datasheet Link: https://datasheet.datasheetarchive.com/originals/distributors/DKDS42/DSANUWW0051573.pdf; Height: 0.65mm; Mouser Part Number: 279-RN73C2A4K02BTD; Mouser Price/Stock: https://www.mouser.com/Search/Refine.aspx?Keyword=279-RN73C2A4K02BTD; Supplier 1: Digi-Key; Supplier Part Number 1: A119994CT-ND
footprint RESC2012X65N
pins: 1, 2

## Res 4.3k 0.05% 0805
designator R?, comment 4.3k
Resistor; Manufacturer_Name: Panasonic; Manufacturer_Part_Number: ERA-6ARW432V; Datasheet Link: http://industrial.panasonic.com/cdbs/www-data/pdf/RDM0000/AOA0000C307.pdf; Height: 0.6mm; Mouser Part Number: 667-ERA-6ARW432V; Mouser Price/Stock: https://www.mouser.com/Search/Refine.aspx?Keyword=667-ERA-6ARW432V; Supplier 1: Digi-Key; Supplier Part Number 1: P4.3KBSCT-ND
footprint ERA6A_(0805)
pins: 1, 2

## Res 5k 0.1% 0603
designator R?  value 5k  (hidden comment: Res 5k 0.1% 0603)
RES SMD 5K OHM 0.1% 0.15W 0603 / 5 ±0.1% 0.15W Chip Resistor 0603 (1608 Metric) Anti-Sulfur, Moisture Resistant, Non-Inductive, Non-Magnetic Thin Film; Supplier 1: Digi-Key; Supplier Part Number 1: PNM0603-5.0KBCT-ND
simulation model RESISTOR (Resistor)
signal-integrity model Res
footprint Panasonic ERA-3A Series Resistor (RES SMD 0603)
pins: 1, 2

## Res 6.04k 0.1% 0603
designator R?  value 6.04k  (hidden comment: Res 6.04k 0.1% 0603)
RES SMD 6.04K OHM 0.1% 1/5W 0603 / 6.04 ±0.1% 0.2W, 1/5W Chip Resistor 0603 (1608 Metric) Automotive AEC-Q200, Pulse Withstanding Thick Film; Supplier 1: Digi-Key; Supplier Part Number 1: P6.04KDBCT-ND
simulation model RESISTOR (Resistor)
signal-integrity model Res
footprint Panasonic ERA-3A Series Resistor (RES SMD 0603)
pins: 1, 2

## Res 6.19k 0.1% 0805
designator R?, comment 6.19k
Resistor; Manufacturer_Name: TE Connectivity; Manufacturer_Part_Number: RN73C2A6K19BTDF; Datasheet Link: https://datasheet.datasheetarchive.com/originals/distributors/DKDS42/DSANUWW0051573.pdf; Height: 0.65mm; Mouser Part Number: 279-RN73CA-6.19K; Mouser Price/Stock: http://www.mouser.com/Search/ProductDetail.aspx?qs=rthfhr2kfqxPIq425Yz5Cg%3d%3d; Supplier 1: Digi-Key; Supplier Part Number 1: A103493CT-ND
footprint RESC2012X65N
pins: 1, 2

## Res 6.98k 0.1% 0603
designator R?  value 6.98k  (hidden comment: Res 6.98k 0.1% 0603)
RES SMD 6.98KOHM 0.1% 1/10W 0603 / 6.98 ±0.1% 0.1W, 1/10W Chip Resistor 0603 (1608 Metric) Automotive AEC-Q200 Thin Film; Supplier 1: Digi-Key; Supplier Part Number 1: P6.98KDBCT-ND
simulation model RESISTOR (Resistor)
signal-integrity model Res
footprint Panasonic ERA-3A Series Resistor (RES SMD 0603)
pins: 1, 2

## Res 8k 0.01% 0603
designator R?, comment 8k
Resistor; Manufacturer_Name: Vishay; Manufacturer_Part_Number: PLTU0603U8001LST5; Datasheet Link: https://www.vishay.com/docs/60131/pltu.pdf; Height: 0.508mm; Mouser Part Number: 71-PLTU0603U8001LST5; Mouser Price/Stock: https://www.mouser.com/Search/Refine.aspx?Keyword=71-PLTU0603U8001LST5; Supplier 1: Digi-Key; Supplier Part Number 1: 541-3066-1-ND
footprint RESC1608X51N
pins: 1, 2

## Res 9.09k 0.1% 0603
designator R?  value 9.09k  (hidden comment: Res 9.09k 0.1% 0603)
RES SMD 9.09KOHM 0.1% 1/10W 0603 / 9.09 ±0.1% 0.1W, 1/10W Chip Resistor 0603 (1608 Metric) Automotive AEC-Q200 Thin Film; Supplier 1: Digi-Key; Supplier Part Number 1: P9.09KDBCT-ND
simulation model RESISTOR (Resistor)
signal-integrity model Res
footprint Panasonic ERA-3A Series Resistor (RES SMD 0603)
pins: 1, 2

## Res 10k 0.01% 0603
designator R?, comment 10k
Resistor; Manufacturer_Name: Stackpole Electronics Inc.; Manufacturer_Part_Number: RNCF0603TKY10K0; Datasheet Link: https://www.seielect.com/catalog/sei-rncf.pdf; Height: 0.55mm; Arrow Part Number: RNCF0603TKY10K0; Arrow Price/Stock: https://www.arrow.com/en/products/rncf0603tky10k0/stackpole-electronics; Supplier 1: Digi-Key; Supplier Part Number 1: RNCF0603TKY10K0CT-ND
footprint RESC1608X55N
pins: 1, 2

## Res 10k 0.1% 0603
designator R?, comment 10k
Resistor; Manufacturer_Name: Bourns; Manufacturer_Part_Number: CRT0603-BY-1002ELF; Datasheet Link: http://www.bourns.com/data/global/pdfs/crt.pdf; Height: 0.6mm; Mouser Part Number: 652-CRT0603BY1002ELF; Mouser Price/Stock: https://www.mouser.co.uk/ProductDetail/Bourns/CRT0603-BY-1002ELF?qs=LKPZbmhlTxgzUffbGyQsfg%3D%3D; Supplier 1: RSComponents; Supplier Part Number 1: 6934479
footprint RESC1608X60N
pins: 1, 2

## Res 10k 0.01% 0805
designator R?, comment 10k
Resistor; Manufacturer_Name: Vishay; Manufacturer_Part_Number: Y162410K0000T9R; Datasheet Link: https://datasheet.datasheetarchive.com/originals/distributors/Datasheets_SAMA/5e998c4b800c78a3cf0ddc44b68a342b.pdf; Height: 0.64mm; Mouser Part Number: N/A; Mouser Price/Stock: https://www.mouser.co.uk/ProductDetail/Vishay-Precision-Group-Foil-Resistors/Y162410K0000T9R/?qs=m%252B5RnF26Ak5aoZgEVOsJiQ%3D%3D; Supplier 1: Digi-Key; Supplier 2: Digi-Key; Supplier Part Number 1: Y1624-10KCT-ND; Supplier Part Number 2: RNCF0805TKY10K0CT-ND
footprint RESC2013X64N
pins: 1, 2

## Res 10k 0.1% 0805
designator R?  value 10k  (hidden comment: Res 10k 0.1% 0805)
RES 10K OHM 0.1% 1/8W 0805 / 10 ±0.1% 0.125W, 1/8W Chip Resistor 0805 (2012 Metric) Automotive AEC-Q200 Thin Film; Published: 8-Jun-2000; LatestRevisionDate: 29-May-2009; LatestRevisionNote: IPC-7351 Footprint Added.; PackageReference: J1-0603; Publisher: Altium Limited; PackageDescription: Chip Resistor; Supplier 1: Digi-Key; Supplier Part Number 1: P10KDACT-ND
simulation model RESISTOR (Resistor)
signal-integrity model Res
footprint Panasonic ERA-6A Series Resistor (RES SMD 0805)
pins: 1, 2

## Res 11k 0.1% 0603
designator R?  value 11k  (hidden comment: Res 11k 0.1% 0603)
RES SMD 11K OHM 0.1% 1/10W 0603 / 11 ±0.1% 0.1W, 1/10W Chip Resistor 0603 (1608 Metric) Automotive AEC-Q200 Thin Film; Supplier 1: Digi-Key; Supplier Part Number 1: P11KDBCT-ND
simulation model RESISTOR (Resistor)
signal-integrity model Res
footprint Panasonic ERA-3A Series Resistor (RES SMD 0603)
pins: 1, 2

## Res 12k 0.1% 0603
designator R?  value 12k  (hidden comment: Res 12k 0.1% 0603)
RES SMD 12K OHM 0.1% 1/5W 0603 / 12 ±0.1% 0.2W, 1/5W Chip Resistor 0603 (1608 Metric) Automotive AEC-Q200, Pulse Withstanding Thick Film; Supplier 1: Digi-Key; Supplier Part Number 1: P12KDBCT-ND
simulation model RESISTOR (Resistor)
signal-integrity model Res
footprint Panasonic ERA-3A Series Resistor (RES SMD 0603)
pins: 1, 2

## Res 18k 0.05% 0603
designator R?, comment 18k
Resistor; Manufacturer_Name: Panasonic; Manufacturer_Part_Number: ERA-3VRW1802V; Datasheet Link: http://industrial.panasonic.com/cdbs/www-data/pdf/RDM0000/RDM0000C331.pdf; Height: 0.4mm; Supplier 1: Digi-Key; Supplier Part Number 1: 10-ERA-3VRW1802VCT-ND
footprint ERA3KV_(0603)
pins: 1, 2

## Res 20k 0.1% 0603
designator R?, comment 20k
Resistor; Manufacturer_Name: Panasonic; Manufacturer_Part_Number: ERA-3ARB203V; Datasheet Link: http://industrial.panasonic.com/cdbs/www-data/pdf/RDM0000/AOA0000C307.pdf; Height: 0.5mm; Mouser Part Number: 667-ERA-3ARB203V; Mouser Price/Stock: https://www.mouser.com/Search/Refine.aspx?Keyword=667-ERA-3ARB203V; Supplier 1: Digi-Key; Supplier 2: RSComponents; Supplier Part Number 1: RNCF0603TKT20K0CT-ND; Supplier Part Number 2: 6618837
footprint ERA3A_(0603)
pins: 1, 2

## Res 25k 0.1% 0805
designator R?, comment 25k
Resistor; Manufacturer_Name: TE Connectivity; Manufacturer_Part_Number: CPF-A-0805B25KE1; Datasheet Link: https://datasheet.datasheetarchive.com/originals/distributors/DKDS-21/401695.pdf; Height: 0.65mm; Mouser Part Number: 279-CPF-A-0805B25KE1; Mouser Price/Stock: https://www.mouser.co.uk/ProductDetail/TE-Connectivity-Holsworthy/CPF-A-0805B25KE1/?qs=Rv6LVDxB0Zrc%252BJ54Z9A8jw%3D%3D; Arrow Part Number: CPF-A-0805B25KE1; Arrow Price/Stock: https://www.arrow.com/en/products/cpf-a-0805b25ke1/te-connectivity; Supplier 1: RSComponents; Supplier 2: Digi-Key; Supplier Part Number 1: 8667355; Supplier Part Number 2: A121556CT-ND
footprint RESC2012X65N
pins: 1, 2

## Res 33k 0.1% 0805
designator R?, comment 33k
Resistor; Manufacturer_Name: Panasonic; Manufacturer_Part_Number: ERA-6ARB333V; Datasheet Link: http://industrial.panasonic.com/cdbs/www-data/pdf/RDM0000/AOA0000C307.pdf; Height: 0.6mm; Mouser Part Number: 667-ERA-6ARB333V; Mouser Price/Stock: https://www.mouser.com/Search/Refine.aspx?Keyword=667-ERA-6ARB333V; Supplier 1: Digi-Key; Supplier Part Number 1: P33KBFCT-ND
footprint ERA6A_(0805)
pins: 1, 2

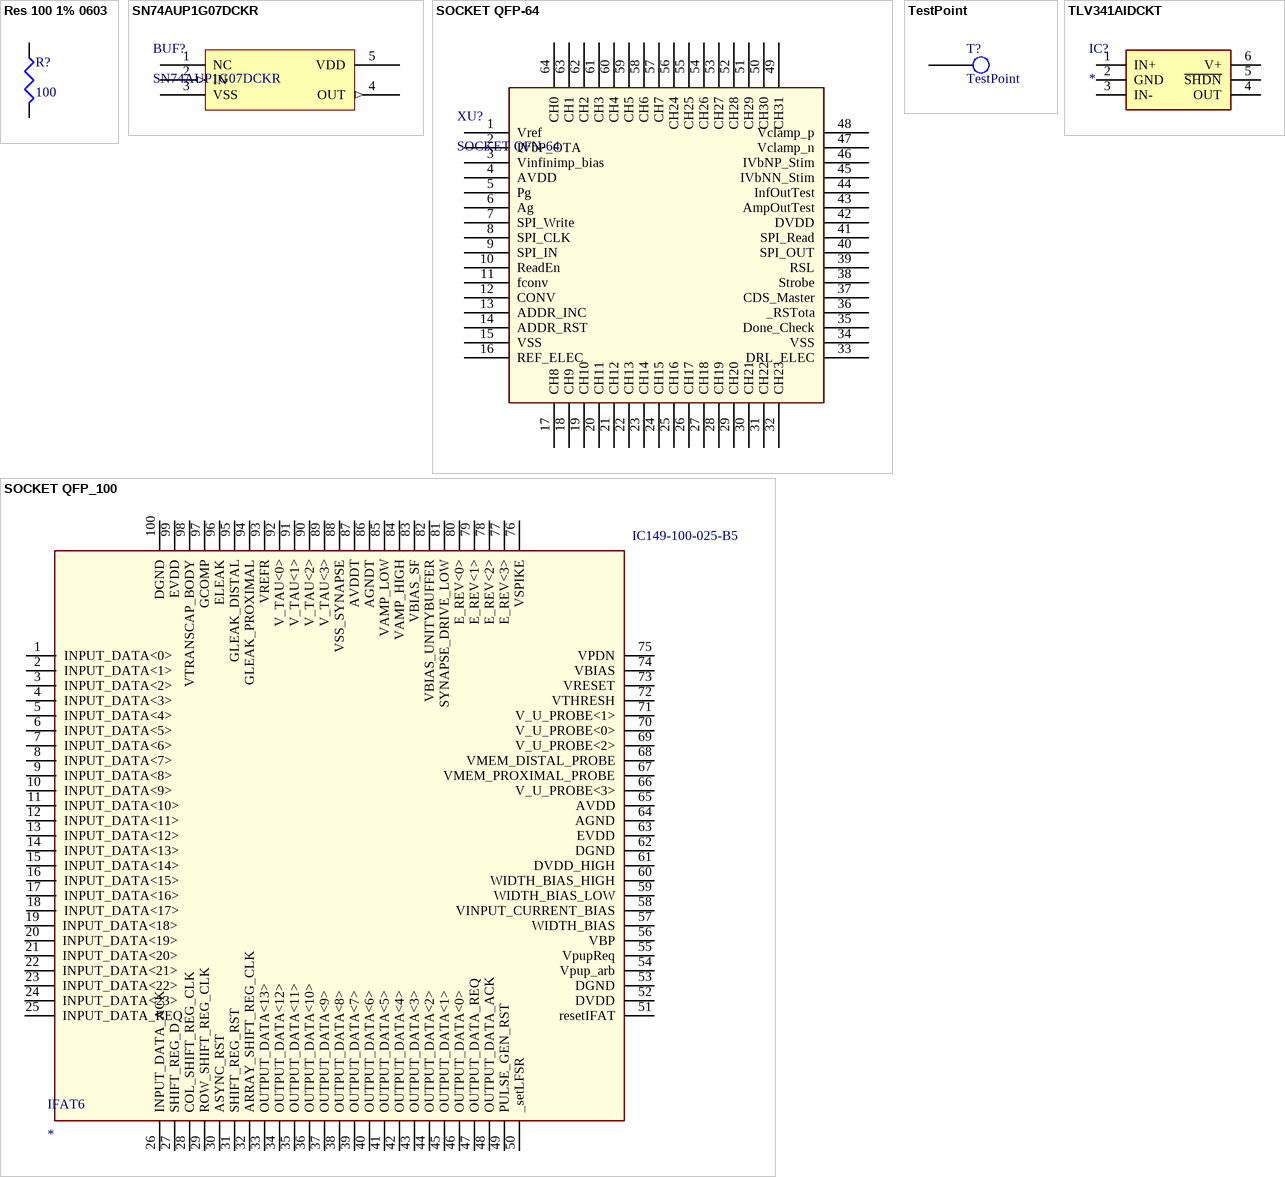
[diagram p2: symbols Res 100 1% 0603 to TLV341AIDCKT]

## Res 100 1% 0603
designator R?  value 100  (hidden comment: Res 100 1% 0603)
RES 100 OHM 1% 1/10W 0603 / 100 ±1% 0.1W, 1/10W Chip Resistor 0603 (1608 Metric) - Thick Film; Published: 8-Jun-2000; LatestRevisionDate: 29-May-2009; LatestRevisionNote: IPC-7351 Footprint Added.; PackageReference: J1-0603; Publisher: Altium Limited; PackageDescription: Chip Resistor; Supplier 1: Digi-Key; Supplier 2: Mouser; Supplier 3: Digi-Key; Supplier Part Number 1: P100DBCT-ND; Supplier Part Number 2: 667-ERA-3AEB101V; Supplier Part Number 3: 541-4642-1-ND
simulation model RESISTOR (Resistor)
signal-integrity model Res
footprint Panasonic ERA-3A Series Resistor (RES SMD 0603)
pins: 1, 2

## SN74AUP1G07DCKR
designator BUF?
IC BUF NON-INVERT 3.6V SC70-5 / Buffer, Non-Inverting 1 Element 1 Bit per Element Open Drain Output SC-70-5; Supplier 1: Digi-Key; Supplier Part Number 1: 296-18256-1-ND
footprint TI SN74AUP1G07DCKR (IC BUF NON-INVERT 3.6V SC70-5)
pins: 1 NC, 2 IN (in), 3 VSS (power), 4 OUT (out), 5 VDD (power)

## SOCKET QFP-64
designator XU?, comment SOCKET QFN-64
64 PIN QFP, 0.50MM / Connector Chip Carrier For IC Sockets; ComponentLink1Description: QFN-64 Socket; ComponentLink1URL: https://www.mouser.com/datasheet/2/448/Yamaichi_Electronics_08162018_IC51-0644-807_H-1391412.pdf; Supplier 1: Mouser; Supplier 2: Digi-Key; Supplier Part Number 2: 2408-IC51-0644-807-ND; Supplier Part Number 1: 945-IC51-0644-807
footprint Yamaichi IC51-0644-807 (64 PIN QFP, 0.50MM)
pins: 1 Vref, 2 IVbP_OTA, 3 Vinfinimp_bias, 4 AVDD, 5 Pg, 6 Ag, 7 SPI_Write, 8 SPI_CLK, 9 SPI_IN, 10 ReadEn, 11 fconv, 12 CONV, 13 ADDR_INC, 14 ADDR_RST, 15 VSS, 16 REF_ELEC, 17 CH8, 18 CH9, 19 CH10, 20 CH11, 21 CH12, 22 CH13, 23 CH14, 24 CH15, 25 CH16, 26 CH17, 27 CH18, 28 CH19, 29 CH20, 30 CH21, 31 CH22, 32 CH23, 33 DRL_ELEC, 34 VSS, 35 Done_Check, 36 _RSTota, 37 CDS_Master, 38 Strobe, 39 RSL, 40 SPI_OUT, 41 SPI_Read, 42 DVDD, 43 AmpOutTest, 44 InfOutTest, 45 IVbNN_Stim, 46 IVbNP_Stim, 47 Vclamp_n, 48 Vclamp_p, 49 CH31, 50 CH30, 51 CH29, 52 CH28, 53 CH27, 54 CH26, 55 CH25, 56 CH24, 57 CH7, 58 CH6, 59 CH5, 60 CH4, 61 CH3, 62 CH2, 63 CH1, 64 CH0

## SOCKET QFP_100
designator IFAT6  Manufacturer_Part_Number: IC149-100-025-B5
100 pin QFP; Manufacturer_Name: Yamaichi Electronics; Datasheet Link: https://www.mouser.com/datasheet/2/448/Yamaichi_Electronics_08162018_IC149-100-x25-x5x_L-1391528.pdf; Mouser Price/Stock: https://www.mouser.com/ProductDetail/Yamaichi-Electronics/IC149-100-025-B5?qs=nO3wRANIIvnwx1%2FO7RgPQA%3D%3D&countrycode=US&currencycode=USD; Mouser Part Number: 945-IC149-100-025-B5
footprint 264-5205-01_1
pins: 1 INPUT_DATA<0>, 2 INPUT_DATA<1>, 3 INPUT_DATA<2>, 4 INPUT_DATA<3>, 5 INPUT_DATA<4>, 6 INPUT_DATA<5>, 7 INPUT_DATA<6>, 8 INPUT_DATA<7>, 9 INPUT_DATA<8>, 10 INPUT_DATA<9>, 11 INPUT_DATA<10>, 12 INPUT_DATA<11>, 13 INPUT_DATA<12>, 14 INPUT_DATA<13>, 15 INPUT_DATA<14>, 16 INPUT_DATA<15>, 17 INPUT_DATA<16>, 18 INPUT_DATA<17>, 19 INPUT_DATA<18>, 20 INPUT_DATA<19>, 21 INPUT_DATA<20>, 22 INPUT_DATA<21>, 23 INPUT_DATA<22>, 24 INPUT_DATA<23>, 25 INPUT_DATA_REQ, 26 INPUT_DATA_ACK, 27 SHIFT_REG_D, 28 COL_SHIFT_REG_CLK, 29 ROW_SHIFT_REG_CLK, 30 ASYNC_RST, 31 SHIFT_REG_RST, 32 ARRAY_SHIFT_REG_CLK, 33 OUTPUT_DATA<13>, 34 OUTPUT_DATA<12>, 35 OUTPUT_DATA<11>, 36 OUTPUT_DATA<10>, 37 OUTPUT_DATA<9>, 38 OUTPUT_DATA<8>, 39 OUTPUT_DATA<7>, 40 OUTPUT_DATA<6>, 41 OUTPUT_DATA<5>, 42 OUTPUT_DATA<4>, 43 OUTPUT_DATA<3>, 44 OUTPUT_DATA<2>, 45 OUTPUT_DATA<1>, 46 OUTPUT_DATA<0>, 47 OUTPUT_DATA_REQ, 48 OUTPUT_DATA_ACK, 49 PULSE_GEN_RST, 50 _setLFSR, 51 resetIFAT, 52 DVDD, 53 DGND, 54 Vpup_arb, 55 VpupReq, 56 VBP, 57 WIDTH_BIAS, 58 VINPUT_CURRENT_BIAS, 59 WIDTH_BIAS_LOW, 60 WIDTH_BIAS_HIGH, 61 DVDD_HIGH, 62 DGND, 63 EVDD, 64 AGND, 65 AVDD, 66 V_U_PROBE<3>, 67 VMEM_PROXIMAL_PROBE, 68 VMEM_DISTAL_PROBE, 69 V_U_PROBE<2>, 70 V_U_PROBE<0>, 71 V_U_PROBE<1>, 72 VTHRESH, 73 VRESET, 74 VBIAS, 75 VPDN, 76 VSPIKE, 77 E_REV<3>, 78 E_REV<2>, 79 E_REV<1>, 80 E_REV<0>, 81 SYNAPSE_DRIVE_LOW, 82 VBIAS_UNITYBUFFER, 83 VBIAS_SF, 84 VAMP_HIGH, 85 VAMP_LOW, 86 AGNDT, 87 AVDDT, 88 VSS_SYNAPSE, 89 V_TAU<3>, 90 V_TAU<2>, 91 V_TAU<1>, 92 V_TAU<0>, 93 VREFR, 94 GLEAK_PROXIMAL, 95 GLEAK_DISTAL, 96 ELEAK, 97 GCOMP, 98 VTRANSCAP_BODY, 99 EVDD, 100 DGND

## TestPoint
designator T?
Test Point for AWG 30 wire; Designer: OMIGA
footprint TestPoint_TH (Testpont for Header 1x1)
footprint TestPoint_BE (Testpont for Wired Connection)
footprint TestPoint_AWG30 (Test Point for AWG30 Wires)
footprint TestPoint_5010 (Test Point for 5010 THM)
footprint TestPoint_AC (Testpont for Aligator Clip)
pins: 1 "Signal"

## TLV341AIDCKT
designator IC?
Integrated Circuit; Manufacturer_Name: Texas Instruments; Manufacturer_Part_Number: TLV341AIDCKT; Datasheet Link: http://www.ti.com/lit/gpn/TLV341A; Height: 1.1mm; Mouser Part Number: 595-TLV341AIDCKT; Mouser Price/Stock: https://www.mouser.co.uk/ProductDetail/Texas-Instruments/TLV341AIDCKT?qs=m96fseALk3VspgbZUeCYhg%3D%3D; Arrow Part Number: TLV341AIDCKT; Arrow Price/Stock: https://www.arrow.com/en/products/tlv341aidckt/texas-instruments
footprint SOT65P210X110-6N
pins: 1 IN+, 2 GND, 3 IN-, 4 OUT, 5 ~{SHDN}, 6 V+